# Altium footprint library ENGR100PCB.PcbLib: 25 footprints (part 1 of 2)
Each footprint in its own frame and in the unit in brackets; x right, y up, seen from the top. Pads: shape width x height; smd on the part's side, far side on the other; paste and mask are expansions set on the pad; w line width, h text height; cw(c..) or ccw(c..) is an arc to the next point about the centre after c.
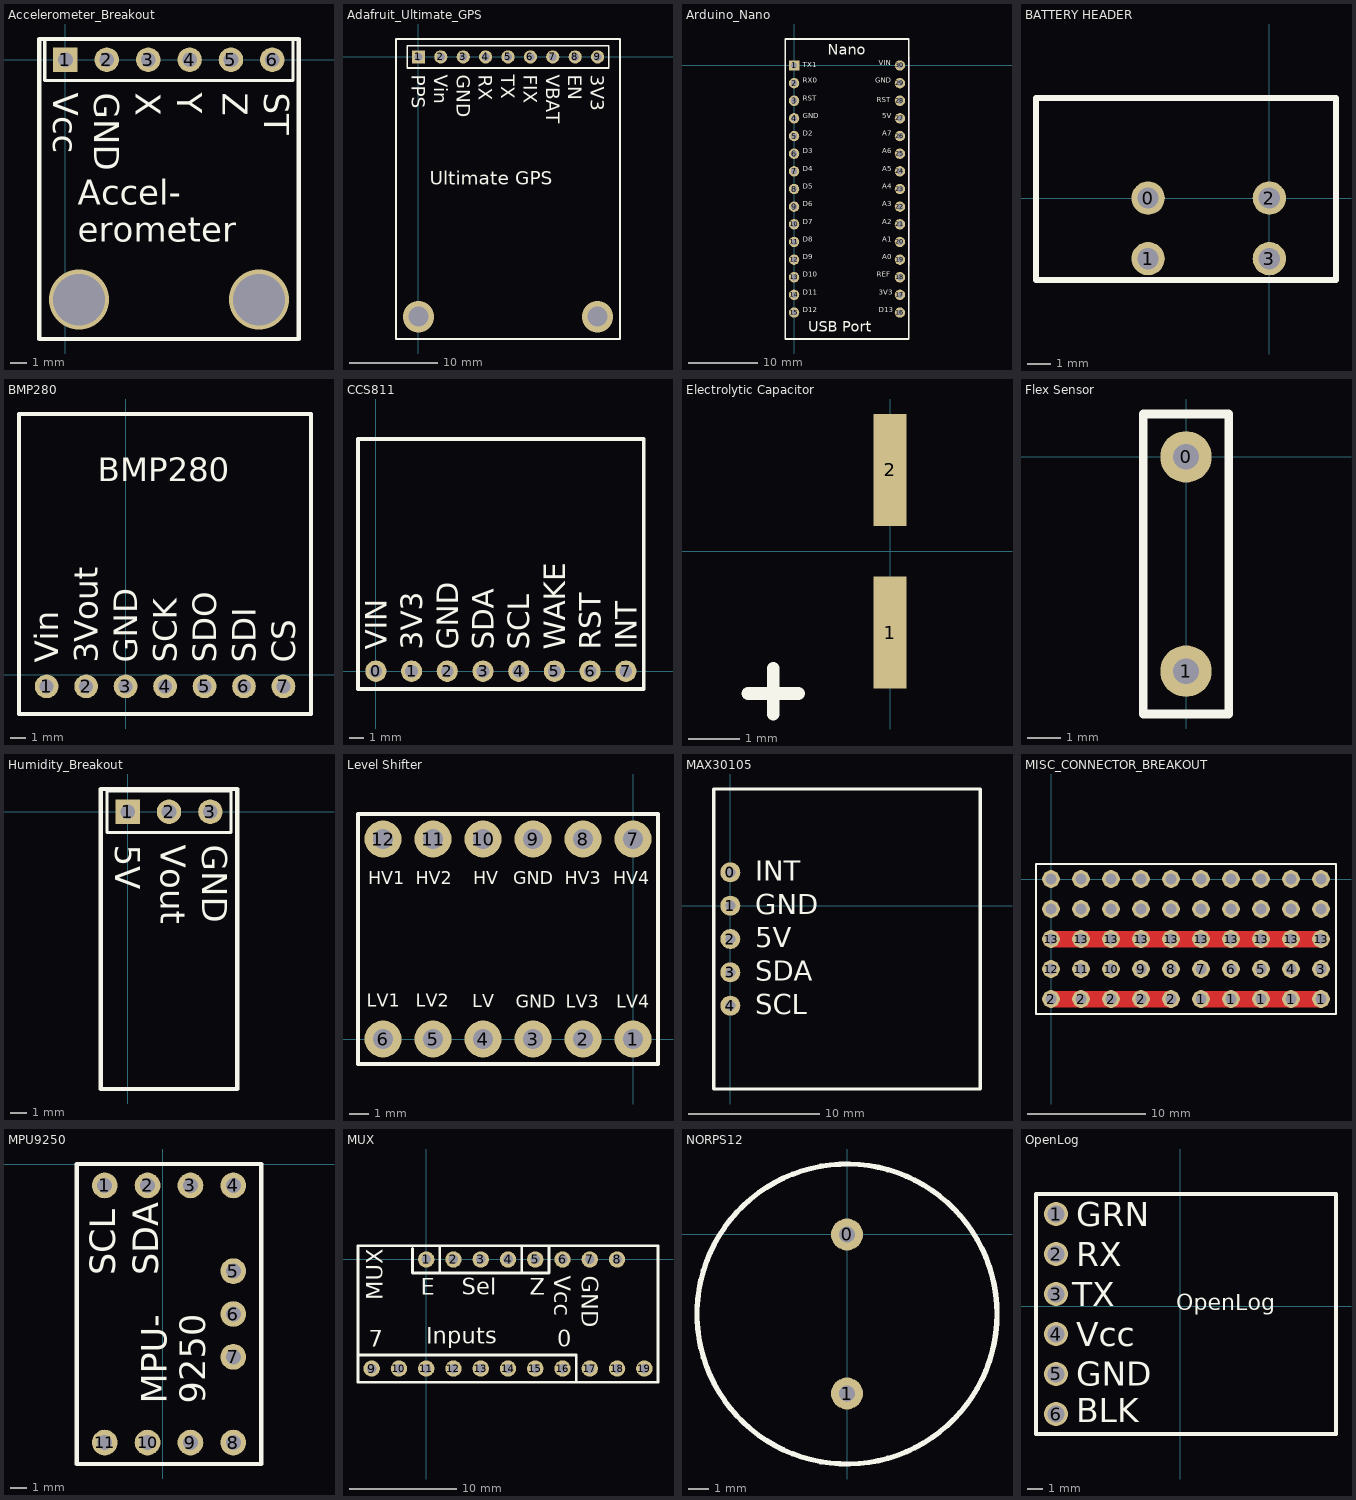
[diagram p0: the footprints below, top view; thin cyan lines are the x and y axes]

## Accelerometer_Breakout [mm]
pads (6):
  rect 1.5x1.5 hole 0.9: 1(0,0)
  round 1.5 hole 0.9: 2(2.54,0) 3(5.08,0) 4(7.62,0) 5(10.16,0) 6(12.7,0)
via 11.874,-14.732 diameter 3.683 hole 3.175
via 0.826,-14.732 diameter 3.683 hole 3.175
Top Overlay:
  lines w0.2: -1.27,-1.27 13.97,-1.27 13.97,1.27 -1.27,1.27 -1.27,-1.27
  lines w0.254: -1.607,-17.145 14.319,-17.145 14.319,1.27 -1.607,1.27 -1.607,-17.145
  text "Vcc" at -0.762,-2.032 h1.52
  text "Accel- / erometer" at 0.762,-11.176 h1.52
  text "GND" at 1.778,-2.032 h1.52
  text "X" at 4.318,-2.032 h1.52
  text "Y" at 6.858,-2.032 h1.52
  text "Z" at 9.652,-2.032 h1.52
  text "ST" at 12.192,-2.032 h1.52
3D body: height 2.11, standoff 0.51, extent -1.607,-17.094 14.319,1.321

## Adafruit_Ultimate_GPS [mm] "Adafruit GPS Breakout Board"
pads (9):
  rect 1.5x1.5 hole 0.9: 1(0,0)
  round 1.5 hole 0.9: 2(2.54,0) 3(5.08,0) 4(7.62,0) 5(10.16,0) 6(12.7,0) 7(15.24,0) 8(17.78,0) 9(20.32,0)
via 20.32,-29.464 diameter 3.556 hole 2.286
via 0,-29.464 diameter 3.556 hole 2.286
Top Overlay:
  lines w0.2: -1.27,-1.27 21.59,-1.27 21.59,1.27 -1.27,1.27 -1.27,-1.27
  lines w0.254: -2.54,-32.004 22.86,-32.004 22.86,2.032 -2.54,2.032 -2.54,-32.004
  text "3V3" at 19.558,-2.032 h1.52
  text "EN" at 17.018,-2.032 h1.52
  text "VBAT" at 14.478,-2.032 h1.52
  text "FIX" at 11.938,-2.032 h1.52
  text "TX" at 9.398,-2.032 h1.52
  text "RX" at 6.858,-2.032 h1.52
  text "GND" at 4.318,-2.032 h1.52
  text "Vin" at 1.778,-2.032 h1.52
  text "PPS" at -0.762,-2.032 h1.52
  text "Ultimate GPS" at 1.27,-14.478 h1.52
3D body: height 2.11, standoff 0.51, extent -2.54,-32.004 22.86,2.032

## Arduino_Nano [mm]
pads (30):
  rect 1.5x1.5 hole 0.9: 1(0,0)
  round 1.5 hole 0.9: 2(0,-2.54) 3(0,-5.08) 4(0,-7.62) 5(0,-10.16) 6(0,-12.7) 7(0,-15.24) 8(0,-17.78) 9(0,-20.32) 10(0,-22.86) 11(0,-25.4) 12(0,-27.94) 13(0,-30.48) 14(0,-33.02) 15(0,-35.56) 16(15.24,-35.56) 17(15.24,-33.02) 18(15.24,-30.48) 19(15.24,-27.94) 20(15.24,-25.4) 21(15.24,-22.86) 22(15.24,-20.32) 23(15.24,-17.78) 24(15.24,-15.24) 25(15.24,-12.7) 26(15.24,-10.16) 27(15.24,-7.62) 28(15.24,-5.08) 29(15.24,-2.54) 30(15.24,0)
Top Overlay:
  lines w0.2: -1.27,-36.83 -1.27,1.27 ; 16.51,-36.83 16.51,-0.635 16.51,1.27
  lines w0.254: 16.51,-28.575 16.51,-39.37 -1.27,-39.37 -1.27,3.81 16.51,3.81 16.51,1.111
  text "USB Port" at 2.032,-38.354 h1.52
  text "VIN" at 12.192,-0.254 h1.26
  text "GND" at 11.684,-2.794 h1.26
  text "RST" at 11.938,-5.588 h1.26
  text "5V" at 12.7,-7.874 h1.26
  text "A7" at 12.7,-10.414 h1.26
  text "A6" at 12.7,-12.954 h1.26
  text "A5" at 12.7,-15.494 h1.26
  text "A4" at 12.7,-18.034 h1.26
  text "A3" at 12.7,-20.574 h1.26
  text "A2" at 12.7,-23.114 h1.26
  text "A1" at 12.7,-25.654 h1.26
  text "A0" at 12.7,-28.194 h1.26
  text "REF" at 11.938,-30.734 h1.26
  text "3V3" at 12.192,-33.274 h1.26
  text "D13" at 12.192,-35.814 h1.26
  text "D12" at 1.27,-35.814 h1.26
  text "D11" at 1.27,-33.274 h1.26
  text "D10" at 1.27,-30.734 h1.26
  text "D9" at 1.27,-28.194 h1.26
  text "D8" at 1.27,-25.654 h1.26
  text "D7" at 1.27,-23.114 h1.26
  text "D6" at 1.27,-20.574 h1.26
  text "D5" at 1.27,-18.034 h1.26
  text "D4" at 1.27,-15.494 h1.26
  text "D3" at 1.27,-12.954 h1.26
  text "D2" at 1.27,-10.414 h1.26
  text "GND" at 1.27,-7.874 h1.26
  text "RST" at 1.27,-5.334 h1.26
  text "RX0" at 1.27,-2.794 h1.26
  text "TX1" at 1.27,-0.508 h1.26
  text "Nano" at 4.826,1.524 h1.52
Mechanical 1:
  lines w0.254: 16.51,-28.575 16.51,-6.985 16.51,-4.286 16.51,1.111
3D body: height 2.11, standoff 0.51, extent -1.27,-39.37 16.51,3.81

## BATTERY HEADER [mil] "Spring Terminal Battery Header"
pads (4):
  round 55 hole 35: 0(-200,0) 1(-200,-100) 2(0,0) 3(0,-100)
Top Overlay:
  lines w10: -385,-135 110,-135 110,165 -385,165 -385,-135
3D body: height 13.6, standoff 0, extent -385,-135 110,165

## BMP280 [mil]
pads (7):
  round 60 hole 35: 1(-200,-30) 2(-100,-30) 3(0,-30) 4(100,-30) 5(200,-30) 6(300,-30) 7(400,-30)
Top Overlay:
  lines w10: -270,-100 -270,660 470,660 470,-100 -270,-100
  text "BMP280" at -70,490 h60
  text "CS" at 430,30 h60
  text "SDI" at 330,30 h60
  text "SDO" at 230,30 h60
  text "SCK" at 130,30 h60
  text "GND" at 30,30 h60
  text "3Vout" at -70,30 h60
  text "Vin" at -170,30 h60
3D body: height 500, standoff 0, extent -270,-100 470,660

## CCS811 [mm] "Air Quality Sensor"
pads (8):
  oval 1.5x1.524 hole 0.9: 0(0,0) 1(2.54,0) 2(5.08,0) 3(7.62,0) 4(10.16,0) 5(12.7,0) 6(15.24,0) 7(17.78,0)
Top Overlay:
  lines w0.254: -1.27,-1.27 -1.27,16.51 19.05,16.51 19.05,-1.27 -1.27,-1.27
  text "VIN" at 0.762,1.524 h1.52
  text "3V3" at 3.302,1.524 h1.52
  text "GND" at 5.842,1.524 h1.52
  text "SDA" at 8.382,1.524 h1.52
  text "SCL" at 10.922,1.524 h1.52
  text "WAKE" at 13.462,1.524 h1.52
  text "RST" at 16.002,1.524 h1.52
  text "INT" at 18.542,1.524 h1.52
3D body: height 0.25, standoff 0, extent -1.27,-1.27 19.05,16.51

## Electrolytic Capacitor [mm]
pads (2):
  rect 0.65x2.2 smd: 1(0,-1.6) 2(0,1.6)
Top Overlay:
  lines w0.254: -2.8,-2.8 -1.8,-2.8 ; -2.3,-3.2 -2.3,-2.3

## Flex Sensor [mil] "Long and Short Flex Sensor"
pads (2):
  round 60 hole 30: 0(0,0) 1(0,-250)
Top Overlay:
  lines w10: -50,-300 -50,50 50,50 50,-300 -50,-300
3D body: height 5, standoff 0, extent -50,-300 50,50

## Humidity_Breakout [mm]
pads (3):
  rect 1.5x1.5 hole 0.9: 1(0,0)
  round 1.5 hole 0.9: 2(2.54,0) 3(5.08,0)
Top Overlay:
  lines w0.2: -1.27,-1.27 6.35,-1.27 6.35,1.27 -1.27,1.27 -1.27,-1.27
  lines w0.254: -1.651,-17.018 6.731,-17.018 6.731,1.397 -1.651,1.397 -1.651,-17.018
  text "5V" at -0.762,-2.032 h1.52
  text "Vout" at 2.032,-2.032 h1.52
  text "GND" at 4.572,-2.032 h1.52
3D body: height 2.11, standoff 0.51, extent -1.651,-17.018 6.731,1.397

## Level Shifter [mil] "1X06"
pads (12):
  round 74 hole 40: 1(0,0) 2(-100,0) 3(-200,0) 4(-300,0) 5(-400,0) 6(-500,0) 7(0,400) 8(-100,400) 9(-200,400) 10(-300,400) 11(-400,400) 12(-500,400)
Top Overlay:
  lines w8: -550,-25 -550,25 ; -550,375 -550,425 ; -525,-50 -475,-50 ; -525,450 -475,450 ; -425,-50 -375,-50 ; -425,450 -375,450 ; -325,-50 -275,-50 ; -325,450 -275,450 ; -225,-50 -175,-50 ; -225,450 -175,450 ; -125,-50 -75,-50 ; -125,450 -75,450 ; -25,-50 25,-50 ; -25,450 25,450 ; 50,-25 50,25 ; 50,375 50,425 ; -550,-50 50,-50 50,450 -550,450 -550,-50
  text "LV1" at -533,65 h25.5
  text "LV4" at -34,63 h25.5
  text "LV2" at -435,65 h25.5
  text "LV3" at -135,63 h25.5
  text "LV" at -322,64 h25.5
  text "HV" at -320,310 h25.5
  text "GND" at -235,63 h25.5
  text "GND" at -240,310 h25.5
  text "HV3" at -137,310 h25.5
  text "HV2" at -435,310 h25.5
  text "HV4" at -40,310 h25.5
  text "HV1" at -530,310 h25.5
Mechanical 30:
  region: -490,10 -510,10 -510,-10 -490,-10
  region: -390,10 -410,10 -410,-10 -390,-10
  region: -290,10 -310,10 -310,-10 -290,-10
  region: -190,10 -210,10 -210,-10 -190,-10
  region: -90,10 -110,10 -110,-10 -90,-10
  region: 10,10 -10,10 -10,-10 10,-10
3D body: height 500, standoff 0, extent -550,-50 50,450

## MAX30105 [mil] "Particle Sensor"
pads (5):
  round 60 hole 30: 0(0,100) 1(0,0) 2(0,-100) 3(0,-200) 4(0,-300)
Top Overlay:
  lines w10: -50,-550 750,-550 750,350 -50,350 -50,-550
  text "INT" at 75,75 h60
  text "GND" at 75,-25 h60
  text "5V" at 75,-125 h60
  text "SDA" at 75,-225 h60
  text "SCL" at 75,-325 h60
3D body: height 10, standoff 0, extent -50,-550 750,350

## MISC_CONNECTOR_BREAKOUT [mm]
pads (50):
  round 1.5 hole 0.9: 1(12.7,-10.16) 1(15.24,-10.16) 1(17.78,-10.16) 1(20.32,-10.16) 1(22.86,-10.16) 2(0,-10.16) 2(2.54,-10.16) 2(5.08,-10.16) 2(7.62,-10.16) 2(10.16,-10.16) 3(22.86,-7.62) 4(20.32,-7.62) 5(17.78,-7.62) 6(15.24,-7.62) 7(12.7,-7.62) 8(10.16,-7.62) 9(7.62,-7.62) 10(5.08,-7.62) 11(2.54,-7.62) 12(0,-7.62) 13(0,-5.08) 13(2.54,-5.08) 13(5.08,-5.08) 13(7.62,-5.08) 13(10.16,-5.08) 13(12.7,-5.08) 13(15.24,-5.08) 13(17.78,-5.08) 13(20.32,-5.08) 13(22.86,-5.08) ""(0,-2.54) ""(0,0) ""(2.54,-2.54) ""(2.54,0) ""(5.08,-2.54) ""(5.08,0) ""(7.62,-2.54) ""(7.62,0) ""(10.16,-2.54) ""(10.16,0) ""(12.7,-2.54) ""(12.7,0) ""(15.24,-2.54) ""(15.24,0) ""(17.78,-2.54) ""(17.78,0) ""(20.32,-2.54) ""(20.32,0) ""(22.86,-2.54) ""(22.86,0)
Top Layer:
  lines w1.397: 0,-10.16 10.16,-10.16 ; 0,-5.08 22.86,-5.08 ; 12.7,-10.16 22.86,-10.16
Top Overlay:
  lines w0.2: -1.27,-11.43 -1.27,-8.89 -1.27,-6.35 -1.27,-3.81 -1.27,-1.27 -1.27,1.27 0.635,1.27 24.13,1.27 24.13,-1.27 24.13,-3.81 24.13,-6.35 24.13,-8.89 24.13,-11.43 -1.27,-11.43

## MPU9250 [mil] "IMU from sparkfun"
pads (11):
  round 60 hole 35: 1(-135,-50) 2(-35,-50) 3(65,-50) 4(165,-50) 5(165,-250) 6(165,-350) 7(165,-450) 8(165,-650) 9(65,-650) 10(-35,-650) 11(-135,-650)
Top Overlay:
  lines w10: -200,-700 230,-700 230,0 -200,0 -200,-700
  text "MPU- / 9250" at 100,-560 h60
  text "SCL" at -110,-260 h60
  text "SDA" at -10,-260 h60
3D body: height 500, standoff 0, extent -200,-700 230,0

## MUX [mil] "74HC4051 from Sparkfun"
pads (19):
  round 60 hole 35: 1(0,0) 2(100,0) 3(200,0) 4(300,0) 5(400,0) 6(500,0) 7(600,0) 8(700,0) 9(-200,-400) 10(-100,-400) 11(0,-400) 12(100,-400) 13(200,-400) 14(300,-400) 15(400,-400) 16(500,-400) 17(600,-400) 18(700,-400) 19(800,-400)
Top Overlay:
  lines w10: -250,-350 550,-350 550,-450 ; -50,40 -50,-50 50,-50 ; 50,50 50,-50 ; 350,-50 350,50 ; 450,50 450,-50 50,-50 ; -250,-450 -250,50 850,50 850,-450 -200,-450 -250,-450
  text "MUX" at -160,-150 h60
  text "Sel" at 130,-130 h60
  text "Z" at 380,-130 h60
  text "E" at -20,-130 h60
  text "Vcc" at 470,-60 h60
  text "GND" at 570,-60 h60
  text "Inputs" at 0,-310 h60
  text "7" at -210,-320 h60
  text "0" at 480,-320 h60
3D body: height 500, standoff 0, extent -250,-450 850,50

## NORPS12 [mil] "NORPS-12 Photocell"
pads (2):
  round 60 hole 30: 0(0,0) 1(0,-300)
Top Overlay:
  circle w10: c0,-150 r283
3D body: height 1000, standoff 725, extent -285,-435 285,135

## OpenLog [mil]
pads (6):
  round 60 hole 43.31: 1(-310,230) 2(-310,130) 3(-310,30) 4(-310,-70) 5(-310,-170) 6(-310,-270)
Top Overlay:
  lines w10: -360,-320 390,-320 390,280 -360,280 -360,-320
  text "OpenLog" at -10,-10 h40
  text "GRN" at -260,200 h60
  text "RX" at -260,100 h60
  text "TX" at -270,0 h60
  text "Vcc" at -260,-100 h60
  text "GND" at -260,-200 h60
  text "BLK" at -260,-290 h60
3D body: height 500, standoff 0, extent -360,-320 390,280